# EAGLE library part LCD-HD44780 (library candrian)
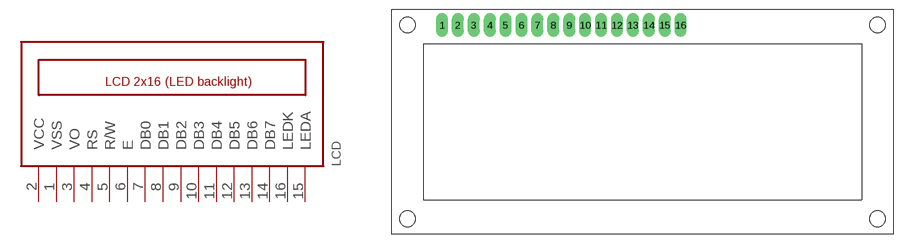
[diagram p6: symbol with the pads of HD44780-2X16; footprint HD44780-2X16]

Designator prefix LCD

## LCD-HD44780  [HD44780-2X16]
1  VSS  pwr
2  VCC  pwr
3  VO  in
4  RS  in
5  R/W  in
6  E  in
7  DB0
8  DB1
9  DB2
10  DB3
11  DB4
12  DB5
13  DB6
14  DB7
15  LEDA  pas
16  LEDK  pas

## Footprint HD44780-2X16 (pad centres in mm)
drill 1 pad 1.93 long: 1 -31.75,13.97; 2 -29.21,13.97; 3 -26.67,13.97; 4 -24.13,13.97; 5 -21.59,13.97; 6 -19.05,13.97; 7 -16.51,13.97; 8 -13.97,13.97; 9 -11.43,13.97; 10 -8.89,13.97; 11 -6.35,13.97; 12 -3.81,13.97; 13 -1.27,13.97; 14 1.27,13.97; 15 3.81,13.97; 16 6.35,13.97
hole 2.5 at -37.25,13.97
hole 2.5 at 37.75,13.97
hole 2.5 at -37.25,-17.03
hole 2.5 at 37.75,-17.03